# EAGLE library part FT2232H (library harrison)
FT2232H USB to FIFO
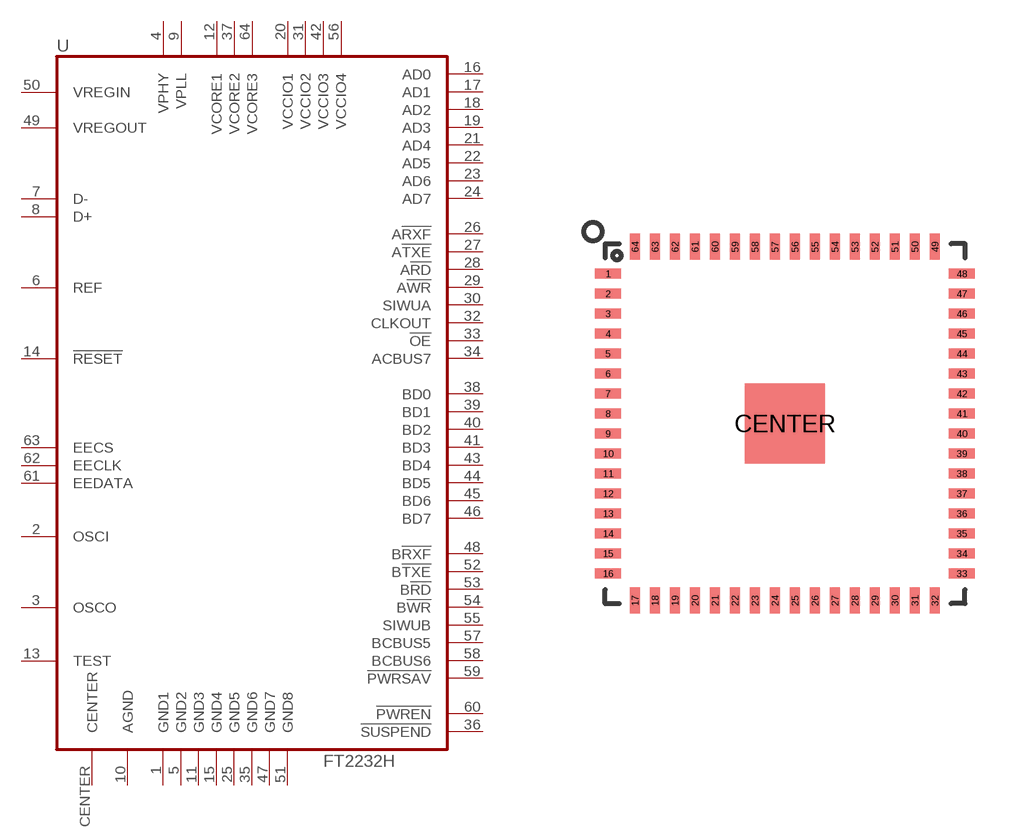
[diagram p51: symbol with the pads of QFN64_9_X_9; footprint QFN64_9_X_9]

Designator prefix U

## FT2232H  [QFN64_9_X_9]
1  GND1  pwr
2  OSCI  in
3  OSCO  out
4  VPHY  pwr
5  GND2  pwr
6  REF  pas
7  D-
8  D+
9  VPLL  pwr
10  AGND  pwr
11  GND3  pwr
12  VCORE1  pwr
13  TEST  in
14  !RESET!  in
15  GND4  pwr
16  AD0
17  AD1
18  AD2
19  AD3
20  VCCIO1  pwr
21  AD4
22  AD5
23  AD6
24  AD7
25  GND5  pwr
26  A!RXF!  out
27  A!TXE!  out
28  A!RD!  in
29  A!WR!  in
30  SIWUA  in
31  VCCIO2  pwr
32  CLKOUT  out
33  !OE!  in
34  ACBUS7
35  GND6  pwr
36  !SUSPEND!  out
37  VCORE2  pwr
38  BD0
39  BD1
40  BD2
41  BD3
42  VCCIO3  pwr
43  BD4
44  BD5
45  BD6
46  BD7
47  GND7  pwr
48  B!RXF!  out
49  VREGOUT  pwr
50  VREGIN  pwr
51  GND8  pwr
52  B!TXE!  out
53  B!RD!  in
54  B!WR!  in
55  SIWUB  in
56  VCCIO4  pwr
57  BCBUS5
58  BCBUS6
59  !PWRSAV!  in
60  !PWREN!  out
61  EEDATA
62  EECLK  out
63  EECS
64  VCORE3  pwr
CENTER  CENTER  pwr

## Footprint QFN64_9_X_9 (pad centres in mm)
smd 0.65 x 0.25: 1 -4.425,3.75; 2 -4.425,3.25; 3 -4.425,2.75; 4 -4.425,2.25; 5 -4.425,1.75; 6 -4.425,1.25; 7 -4.425,0.75; 8 -4.425,0.25; 9 -4.425,-0.25; 10 -4.425,-0.75; 11 -4.425,-1.25; 12 -4.425,-1.75; 13 -4.425,-2.25; 14 -4.425,-2.75; 15 -4.425,-3.25; 16 -4.425,-3.75; 33 4.425,-3.75; 34 4.425,-3.25; 35 4.425,-2.75; 36 4.425,-2.25; 37 4.425,-1.75; 38 4.425,-1.25; 39 4.425,-0.75; 40 4.425,-0.25; 41 4.425,0.25; 42 4.425,0.75; 43 4.425,1.25; 44 4.425,1.75; 45 4.425,2.25; 46 4.425,2.75; 47 4.425,3.25; 48 4.425,3.75
smd 0.25 x 0.65: 17 -3.75,-4.425; 18 -3.25,-4.425; 19 -2.75,-4.425; 20 -2.25,-4.425; 21 -1.75,-4.425; 22 -1.25,-4.425; 23 -0.75,-4.425; 24 -0.25,-4.425; 25 0.25,-4.425; 26 0.75,-4.425; 27 1.25,-4.425; 28 1.75,-4.425; 29 2.25,-4.425; 30 2.75,-4.425; 31 3.25,-4.425; 32 3.75,-4.425; 49 3.75,4.425; 50 3.25,4.425; 51 2.75,4.425; 52 2.25,4.425; 53 1.75,4.425; 54 1.25,4.425; 55 0.75,4.425; 56 0.25,4.425; 57 -0.25,4.425; 58 -0.75,4.425; 59 -1.25,4.425; 60 -1.75,4.425; 61 -2.25,4.425; 62 -2.75,4.425; 63 -3.25,4.425; 64 -3.75,4.425
smd 2 x 2: CENTER 0,0